# EAGLE library part MC33926-DUAL-BO (library s3-pilot2-lbr)
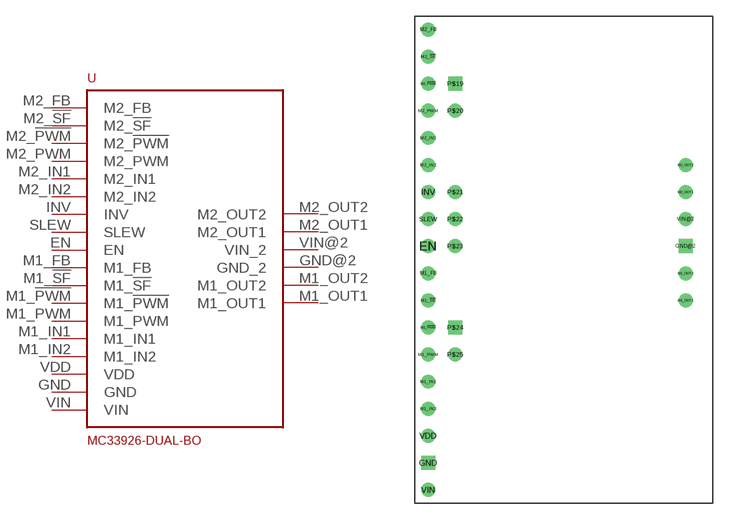
[diagram p0: symbol with the pads of MC33926-DUAL-BO; footprint MC33926-DUAL-BO]

Designator prefix -

## MC33926-DUAL-BO  [MC33926-DUAL-BO]
EN  EN  in
GND  GND  pwr
GND@2  GND_2  pwr
INV  INV  in
M1_!PWM  M1_!PWM  in
M1_!SF  M1_!SF  out
M1_FB  M1_FB  out
M1_IN1  M1_IN1  in
M1_IN2  M1_IN2  in
M1_OUT1  M1_OUT1  pwr
M1_OUT2  M1_OUT2  out
M1_PWM  M1_PWM  in
M2_!PWM  M2_!PWM  in
M2_!SF  M2_!SF  out
M2_FB  M2_FB  out
M2_IN1  M2_IN1  in
M2_IN2  M2_IN2  in
M2_OUT1  M2_OUT1  out
M2_OUT2  M2_OUT2  out
M2_PWM  M2_PWM  in
SLEW  SLEW  in
VDD  VDD  pwr
VIN  VIN  pwr
VIN@2  VIN_2  pwr

## Footprint MC33926-DUAL-BO (pad centres in mm)
drill 0.8: EN 1.27,24.13; INV 1.27,29.21; M1_!PWM 1.27,16.51; M1_!SF 1.27,19.05; M1_FB 1.27,21.59; M1_IN1 1.27,11.43; M1_IN2 1.27,8.89; M1_OUT1 25.4,19.05; M1_OUT2 25.4,21.59; M1_PWM 1.27,13.97; M2_!PWM 1.27,39.37; M2_!SF 1.27,41.91; M2_FB 1.27,44.45; M2_IN1 1.27,34.29; M2_IN2 1.27,31.75; M2_OUT1 25.4,29.21; M2_OUT2 25.4,31.75; M2_PWM 1.27,36.83; P$20 3.81,36.83; P$21 3.81,29.21; P$22 3.81,26.67; P$23 3.81,24.13; P$25 3.81,13.97; SLEW 1.27,26.67; VDD 1.27,6.35; VIN 1.27,1.27; VIN@2 25.4,26.67
drill 0.8 square: GND 1.27,3.81; GND@2 25.4,24.13; P$19 3.81,39.37; P$24 3.81,16.51